# EAGLE library part LTC3106 (library Z-Wave_Europe)
LTC3106 300mA Low Voltage Buck-Boost Converter
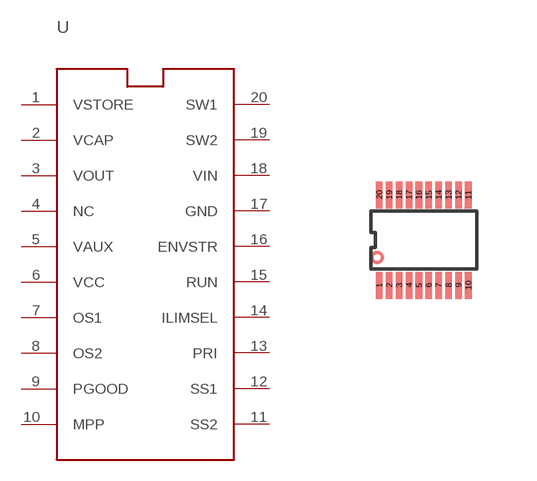
[diagram p3: symbol with the pads of TSSOP20(F); footprint TSSOP20(F)]

Designator prefix -

## LTC3106  [TSSOP20(F)]
1  VSTORE
2  VCAP
3  VOUT
4  NC
5  VAUX
6  VCC
7  OS1
8  OS2
9  PGOOD
10  MPP
11  SS2
12  SS1
13  PRI
14  ILIMSEL
15  RUN
16  ENVSTR
17  GND
18  VIN
19  SW2
20  SW1

## Footprint TSSOP20(F) (pad centres in mm)
Package generated from: TSSOP20(F).asc (!PADS-POWERPCB-V9.3-BASIC! DESIGN DATABASE ASCII FILE 1.0) with :import-pads-powerpcb-v5.ulp Version 1.0.1 at 04.10.2012 14:11:39
smd 0.165 x 0.677: 1 -1.114,-1.132; 2 -0.866,-1.132; 3 -0.619,-1.132; 4 -0.371,-1.132; 5 -0.124,-1.132; 6 0.124,-1.132; 7 0.371,-1.132; 8 0.619,-1.132; 9 0.866,-1.132; 10 1.114,-1.132; 11 1.114,1.132; 12 0.866,1.132; 13 0.619,1.132; 14 0.371,1.132; 15 0.124,1.132; 16 -0.124,1.132; 17 -0.371,1.132; 18 -0.619,1.132; 19 -0.866,1.132; 20 -1.114,1.132